# Altium schematic symbol library RF IC.SchLib: 5 symbols
Pins are listed as number, name and electrical type; pins without a type are passive.

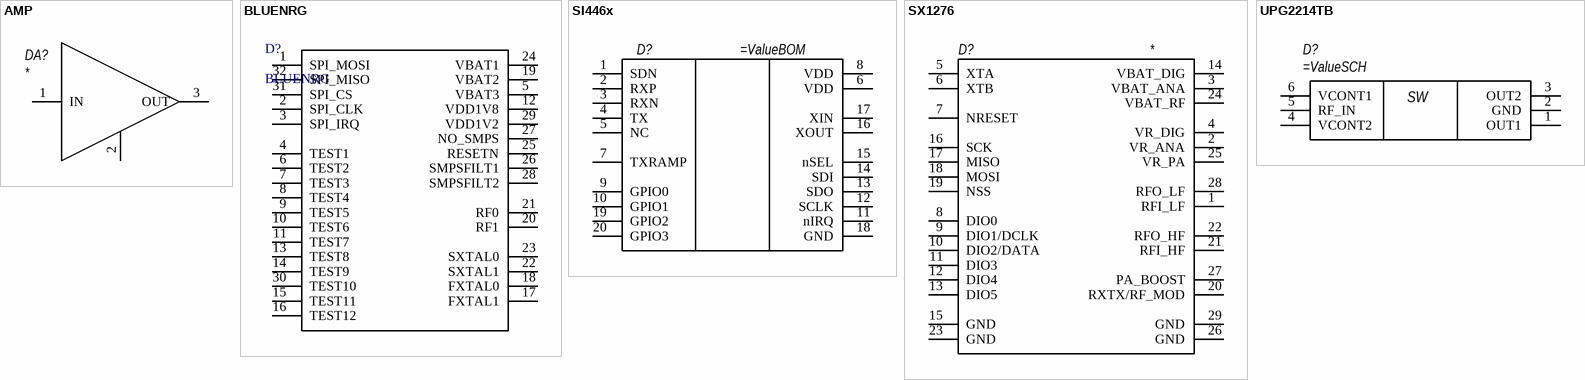
[diagram p0: symbols AMP to UPG2214TB]

## AMP
designator DA?
pins: 1 IN, 2, 3 OUT

## BLUENRG
designator D?
BLUENRG MODULE
footprint QFN32 (QFN, 32-Leads, Body 5,00x5,00mm, Pitch 0,50mm, Thermal Pad 3,25x3,25mm, IPC Medium Density)
pins: 1 SPI_MOSI, 2 SPI_CLK, 3 SPI_IRQ, 4 TEST1, 5 VBAT3, 6 TEST2, 7 TEST3, 8 TEST4, 9 TEST5, 10 TEST6, 11 TEST7, 12 VDD1V8, 13 TEST8, 14 TEST9, 15 TEST11, 16 TEST12, 17 FXTAL1, 18 FXTAL0, 19 VBAT2, 20 RF1, 21 RF0, 22 SXTAL1, 23 SXTAL0, 24 VBAT1, 25 RESETN, 26 SMPSFILT1, 27 NO_SMPS, 28 SMPSFILT2, 29 VDD1V2, 30 TEST10, 31 SPI_CS, 32 SPI_MISO

## SI446x
designator D?
pins: 1 SDN, 2 RXP, 3 RXN, 4 TX, 5 NC, 6 VDD, 7 TXRAMP, 8 VDD, 9 GPIO0, 10 GPIO1, 11 nIRQ, 12 SCLK, 13 SDO, 14 SDI, 15 nSEL, 16 XOUT, 17 XIN, 18 GND, 19 GPIO2, 20 GPIO3, 21 PAD hidden to GND

## SX1276
designator D?
pins: 1 RFI_LF, 2 VR_ANA, 3 VBAT_ANA, 4 VR_DIG, 5 XTA, 6 XTB, 7 NRESET, 8 DIO0, 9 DIO1/DCLK, 10 DIO2/DATA, 11 DIO3, 12 DIO4, 13 DIO5, 14 VBAT_DIG, 15 GND, 16 SCK, 17 MISO, 18 MOSI, 19 NSS, 20 RXTX/RF_MOD, 21 RFI_HF, 22 RFO_HF, 23 GND, 24 VBAT_RF, 25 VR_PA, 26 GND, 27 PA_BOOST, 28 RFO_LF, 29 GND

## UPG2214TB
designator D?
pins: 1 OUT1, 2 GND, 3 OUT2, 4 VCONT2, 5 RF_IN, 6 VCONT1
text: SW